# Altium footprint library PMIC-DDR TERMINATION REG.PcbLib: 3 footprints
Each footprint in its own frame and in the unit in brackets; x right, y up, seen from the top. Pads: shape width x height; smd on the part's side, far side on the other; paste and mask are expansions set on the pad; w line width, h text height; cw(c..) or ccw(c..) is an arc to the next point about the centre after c.
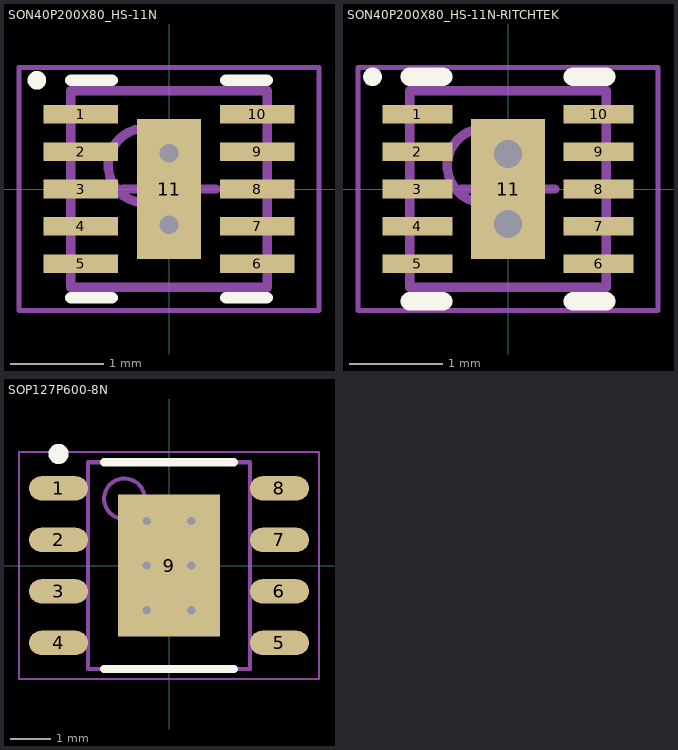
[diagram p0: the footprints below, top view; thin cyan lines are the x and y axes]

## SON40P200X80_HS-11N [mm] "SON, 10-Leads, Body 2,00x2,00mm, Pitch 0,40mm, Thermal Pad 1,50x0,69mm, IPC Medium Density"
height 0.8
pads (11):
  rect 0.8x0.2 smd: 1(-0.945,0.8) 2(-0.945,0.4) 3(-0.945,0) 4(-0.945,-0.4) 5(-0.945,-0.8) 6(0.945,-0.8) 7(0.945,-0.4) 8(0.945,0) 9(0.945,0.4) 10(0.945,0.8)
  rect 0.69x1.5 smd: 11(0,0)
via 0,-0.381 diameter 0.5 hole 0.2
via 0,0.381 diameter 0.5 hole 0.2
Top Overlay:
  circle w0.1: c-1.413,1.164 r0.05
  lines w0.127: -1.05,-1.163 -0.609,-1.163 ; -1.05,1.164 -0.609,1.164 ; 0.609,-1.163 1.05,-1.163 ; 0.609,1.164 1.05,1.164
Mechanical 13:
  circle w0.1: c-0.25,0.25 r0.4
  lines w0.1: -1.05,-1.05 1.05,-1.05 1.05,1.05 -1.05,1.05 -1.05,-1.05
Mechanical 15:
  lines w0.05: -1.605,-1.3 1.605,-1.3 1.605,1.3 -1.605,1.3 -1.605,-1.3
  lines w0.1: -0.5,0 0.5,0 ; 0,-0.5 0,0.5
3D body "SON40P200X80_HS-11N.step": height 0.8, standoff 0, extent -1.051,-1.05 1.051,1.05

## SON40P200X80_HS-11N-RITCHTEK [mm] "SON, 10-Leads, Body 2,00x2,00mm, Pitch 0,40mm, Thermal Pad 1,50x0,79mm, IPC Medium Density"
height 0.8
pads (11):
  rect 0.75x0.2 smd: 1(-0.97,0.8) 2(-0.97,0.4) 3(-0.97,0) 4(-0.97,-0.4) 5(-0.97,-0.8) 6(0.97,-0.8) 7(0.97,-0.4) 8(0.97,0) 9(0.97,0.4) 10(0.97,0.8)
  rect 0.79x1.5 smd: 11(0,0)
via 0,-0.375 diameter 0.6 hole 0.3
via 0,0.375 diameter 0.6 hole 0.3
Top Overlay:
  circle w0.1: c-1.45,1.2 r0.05
  lines w0.2: -1.05,-1.2 -0.695,-1.2 ; -1.05,1.2 -0.695,1.2 ; 0.695,-1.2 1.05,-1.2 ; 0.695,1.2 1.05,1.2
Mechanical 13:
  circle w0.1: c-0.25,0.25 r0.4
  lines w0.1: -1.05,-1.05 1.05,-1.05 1.05,1.05 -1.05,1.05 -1.05,-1.05
Mechanical 15:
  lines w0.05: -1.605,-1.3 1.605,-1.3 1.605,1.3 -1.605,1.3 -1.605,-1.3
  lines w0.1: -0.5,0 0.5,0 ; 0,-0.5 0,0.5
3D body "SON40P200X80_HS-11N-RITCHTEK.step": height 0.8, standoff 0, extent -1.051,-1.05 1.051,1.05

## SOP127P600-8N [mm]
height 1.76
pads (9):
  oval 1.45x0.6 smd: 1(-2.725,1.905) 2(-2.725,0.635) 3(-2.725,-0.635) 4(-2.725,-1.905) 5(2.725,-1.905) 6(2.725,-0.635) 7(2.725,0.635) 8(2.725,1.905)
  rect 2.52x3.5 smd: 9(0,0)
via 0.55,-1.1 diameter 0.5 hole 0.2
via -0.55,-1.1 diameter 0.5 hole 0.2
via 0.55,0 diameter 0.5 hole 0.2
via -0.55,0 diameter 0.5 hole 0.2
via 0.55,1.1 diameter 0.5 hole 0.2
via -0.55,1.1 diameter 0.5 hole 0.2
Top Overlay:
  circle w0.25: c-2.725,2.755 r0.125
  lines w0.2: -1.6,-2.55 1.6,-2.55 ; -1.6,2.55 1.6,2.55
Mechanical 1:
  circle w0.1: c-1.1,1.65 r0.5
  lines w0.1: -2,-2.55 2,-2.55 2,2.55 -2,2.55 -2,-2.55
Mechanical 15:
  lines w0.05: -3.7,-2.8 3.7,-2.8 3.7,2.8 -3.7,2.8 -3.7,-2.8
  lines w0.1: -0.5,0 0.5,0 ; 0,-0.5 0,0.5
3D body "SOP127P600-8N.step": height 1.75, standoff 0, extent -2.997,-2.55 2.997,2.55